# Altium footprint library Connector.PcbLib: 52 footprints (part 2 of 4)
Each footprint in its own frame and in the unit in brackets; x right, y up, seen from the top. Pads: shape width x height; smd on the part's side, far side on the other; paste and mask are expansions set on the pad; w line width, h text height; cw(c..) or ccw(c..) is an arc to the next point about the centre after c.
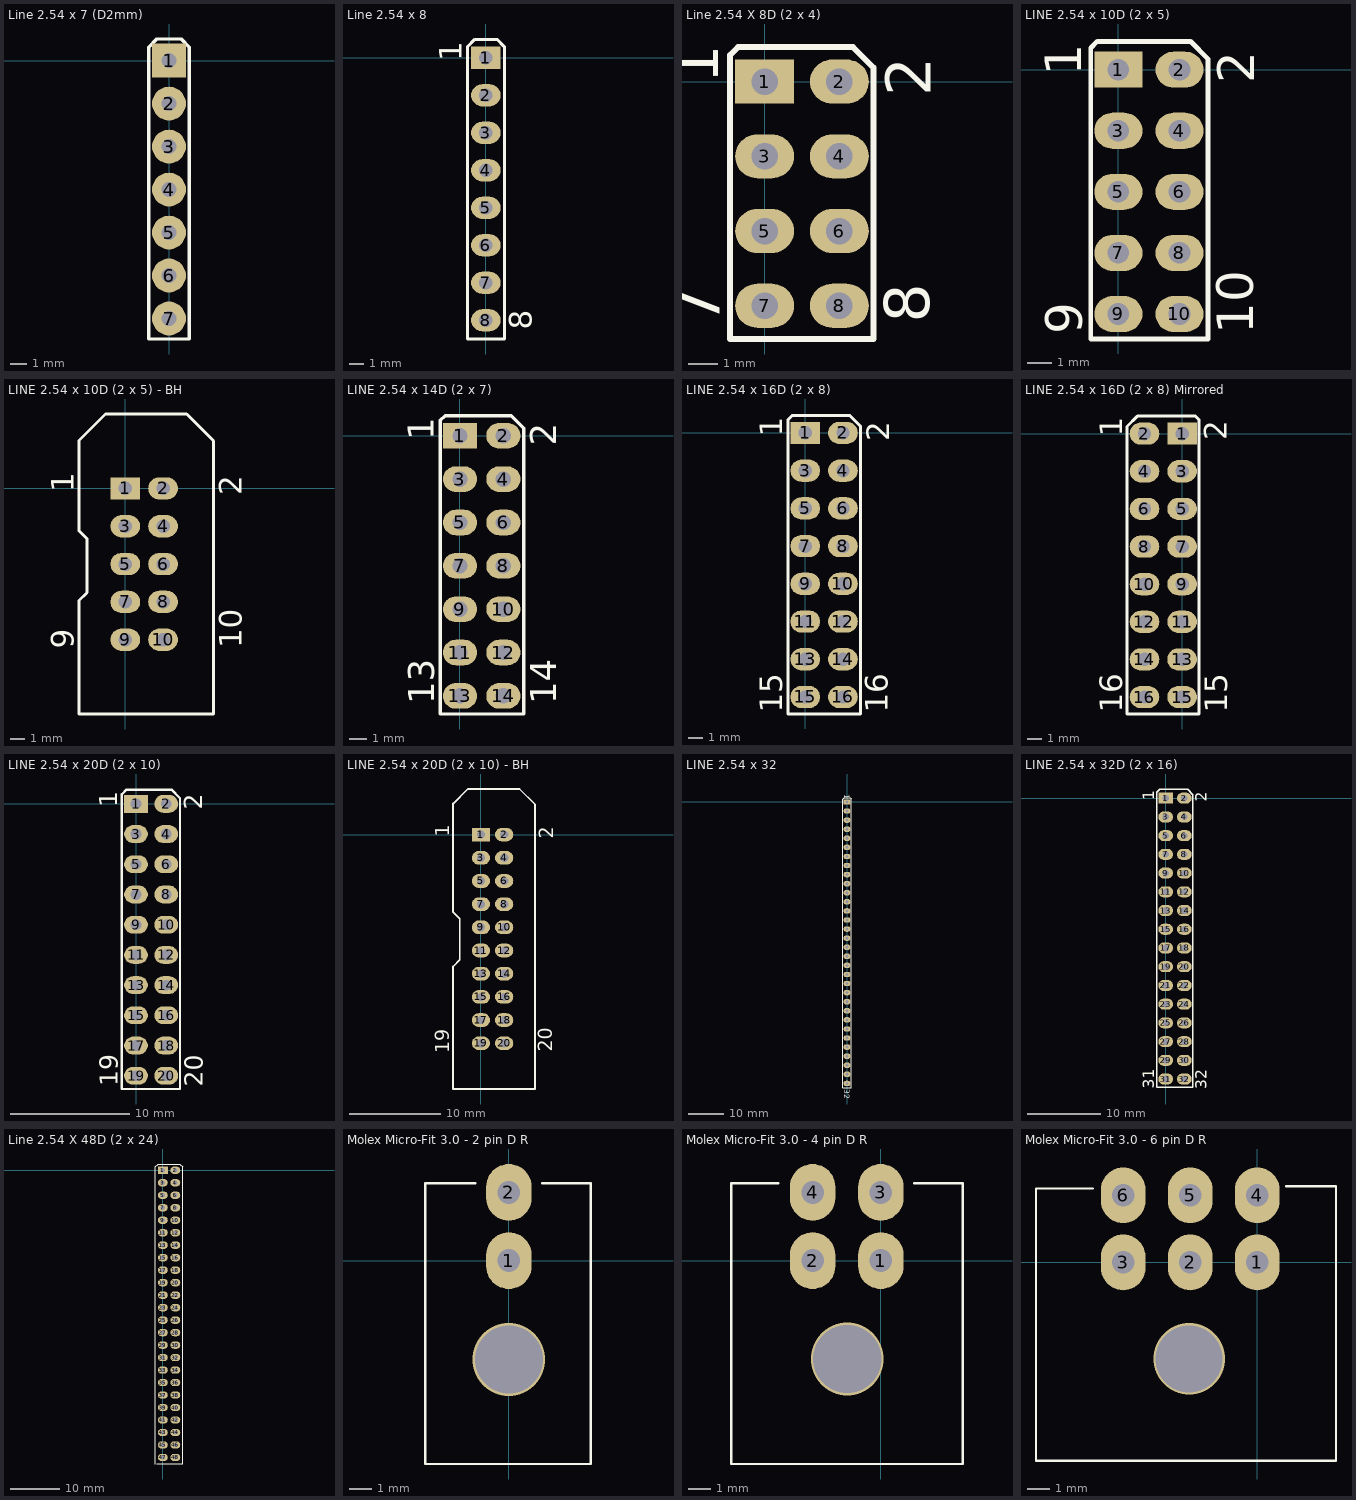
[diagram p1: the footprints below, top view; thin cyan lines are the x and y axes]

## Line 2.54 x 7 (D2mm) [mm]
pads (7):
  rect 2x2 hole 0.9: 1(0,0)
  round 2 hole 0.9: 2(0,-2.54) 3(0,-5.08) 4(0,-7.62) 5(0,-10.16) 6(0,-12.7) 7(0,-15.24)
Top Overlay:
  lines w0.2: -1.2,-16.45 1.2,-16.45 1.2,0.8 0.725,1.275 -0.725,1.275 -1.2,0.8 -1.2,-16.45
3D body: height 8.2, standoff -3, extent -1.253,-16.41 1.246,1.37

## Line 2.54 x 8 [mm]
pads (8):
  rect 2x1.5 hole 0.9: 1(0,0)
  oval 2x1.5 hole 0.9: 2(0,-2.54) 3(0,-5.08) 4(0,-7.62) 5(0,-10.16) 6(0,-12.7) 7(0,-15.24) 8(0,-17.78)
Top Overlay:
  lines w0.2: -1.25,-19.05 1.25,-19.05 1.25,0.75 0.75,1.25 -0.75,1.25 -1.25,0.75 -1.25,-19.05
  text "1" at -1.625,-0.25 h1.52
  text "8" at 3.1,-18.425 h1.52
3D body: height 8.4, standoff -2.8, extent -1.248,-18.91 1.25,1.41

## Line 2.54 X 8D (2 x 4) [mm]
pads (8):
  rect 2x1.5 hole 0.9: 1(0,0)
  oval 2x1.5 hole 0.9: 2(2.54,0) 3(0,-2.54) 4(2.54,-2.54) 5(0,-5.08) 6(2.54,-5.08) 7(0,-7.62) 8(2.54,-7.62)
Top Overlay:
  lines w0.2: -1.175,-8.75 3.7,-8.75 3.7,0.475 3,1.175 -0.9,1.175 -1.175,0.9 -1.175,-8.75
  text "1" at -1.575,-0.075 h1.52
  text "8" at 5.6,-8.2 h1.52
  text "2" at 5.65,-0.5 h1.52
  text "7" at -1.525,-8.275 h1.52
3D body: height 8.6, standoff -2.9, extent -1.265,-8.88 3.815,1.28

## LINE 2.54 x 10D (2 x 5) [mm]
pads (10):
  rect 2x1.5 hole 0.9: 1(0,0)
  oval 2x1.5 hole 0.9: 2(2.54,0) 3(0,-2.54) 4(2.54,-2.54) 5(0,-5.08) 6(2.54,-5.08) 7(0,-7.62) 8(2.54,-7.62) 9(0,-10.16) 10(2.54,-10.16)
Top Overlay:
  lines w0.2: -1.15,-11.2 -1.15,0.9 -0.875,1.175 0.869,1.175 3,1.175 3.725,0.45 3.725,-11.2 -1.15,-11.2
  text "1" at -1.55,-0.25 h1.52
  text "2" at 5.65,-0.575 h1.52
  text "9" at -1.5,-11 h1.52
  text "10" at 5.6,-11 h1.52
3D body: height 8.5, standoff -3, extent -1.265,-11.425 3.815,1.275

## LINE 2.54 x 10D (2 x 5) - BH [mm]
pads (10):
  rect 2x1.5 hole 0.9: 1(0,0)
  oval 2x1.5 hole 0.9: 2(2.54,0) 3(0,-2.54) 4(2.54,-2.54) 5(0,-5.08) 6(2.54,-5.08) 7(0,-7.62) 8(2.54,-7.62) 9(0,-10.16) 10(2.54,-10.16)
Top Overlay:
  lines w0.2: -3.1,-15.15 -3.1,-7.525 -2.575,-7 -2.575,-3.375 -3.1,-2.85 -3.1,3.225 -1.325,5 4.125,5 5.925,3.2 5.925,-15.15 -3.1,-15.15
  text "1" at -3.45,-0.25 h1.52
  text "2" at 7.825,-0.45 h1.52
  text "9" at -3.475,-10.775 h1.52
  text "10" at 7.825,-10.725 h1.52
3D body: height 8.84, standoff -3.3, extent -3.175,-15.255 6.025,5.105

## LINE 2.54 x 14D (2 x 7) [mm]
pads (14):
  rect 2x1.5 hole 0.9: 1(0,0)
  oval 2x1.5 hole 0.9: 2(2.54,0) 3(0,-2.54) 4(2.54,-2.54) 5(0,-5.08) 6(2.54,-5.08) 7(0,-7.62) 8(2.54,-7.62) 9(0,-10.16) 10(2.54,-10.16) 11(0,-12.7) 12(2.54,-12.7) 13(0,-15.24) 14(2.54,-15.24)
Top Overlay:
  lines w0.2: -1.15,-16.3 3.725,-16.3 3.725,0.45 3,1.175 0.869,1.175 -0.875,1.175 -1.15,0.9 -1.15,-16.3
  text "14" at 5.625,-15.725 h1.52
  text "13" at -1.5,-15.725 h1.52
  text "2" at 5.65,-0.575 h1.52
  text "1" at -1.55,-0.25 h1.52
3D body: height 8.8, standoff -2.7, extent -1.265,-16.505 3.815,1.275

## LINE 2.54 x 16D (2 x 8) [mm]
pads (16):
  rect 2x1.5 hole 0.9: 1(0,0)
  oval 2x1.5 hole 0.9: 2(2.54,0) 3(0,-2.54) 4(2.54,-2.54) 5(0,-5.08) 6(2.54,-5.08) 7(0,-7.62) 8(2.54,-7.62) 9(0,-10.16) 10(2.54,-10.16) 11(0,-12.7) 12(2.54,-12.7) 13(0,-15.24) 14(2.54,-15.24) 15(0,-17.78) 16(2.54,-17.78)
Top Overlay:
  lines w0.2: -1.15,-18.925 3.725,-18.925 3.725,0.45 3,1.175 0.869,1.175 -0.875,1.175 -1.15,0.9 -1.15,-18.925
  text "16" at 5.55,-18.825 h1.52
  text "15" at -1.55,-18.85 h1.52
  text "2" at 5.65,-0.575 h1.52
  text "1" at -1.55,-0.25 h1.52
3D body: height 2.3, standoff -9.2, extent -1.265,-19.045 3.815,1.275

## LINE 2.54 x 16D (2 x 8) Mirrored [mm]
pads (16):
  rect 2x1.5 hole 0.9: 1(0,0)
  oval 2x1.5 hole 0.9: 2(-2.54,0) 3(0,-2.54) 4(-2.54,-2.54) 5(0,-5.08) 6(-2.54,-5.08) 7(0,-7.62) 8(-2.54,-7.62) 9(0,-10.16) 10(-2.54,-10.16) 11(0,-12.7) 12(-2.54,-12.7) 13(0,-15.24) 14(-2.54,-15.24) 15(0,-17.78) 16(-2.54,-17.78)
Top Overlay:
  lines w0.2: -3.725,-18.925 1.15,-18.925 1.15,0.925 0.9,1.175 -1.481,1.175 -3.025,1.175 -3.725,0.475 -3.725,-18.925
  text "16" at -4.025,-18.85 h1.52
  text "15" at 3.05,-18.825 h1.52
  text "2" at 3,-0.45 h1.52
  text "1" at -4.05,-0.2 h1.52
3D body: height 2.3, standoff -9.2, extent -3.815,-19.045 1.265,1.275

## LINE 2.54 x 20D (2 x 10) [mm]
pads (20):
  rect 2x1.5 hole 0.9: 1(0,0)
  oval 2x1.5 hole 0.9: 2(2.54,0) 3(0,-2.54) 4(2.54,-2.54) 5(0,-5.08) 6(2.54,-5.08) 7(0,-7.62) 8(2.54,-7.62) 9(0,-10.16) 10(2.54,-10.16) 11(0,-12.7) 12(2.54,-12.7) 13(0,-15.24) 14(2.54,-15.24) 15(0,-17.78) 16(2.54,-17.78) 17(0,-20.32) 18(2.54,-20.32) 19(0,-22.86) 20(2.54,-22.86)
Top Overlay:
  lines w0.2: -1.2,-23.975 3.7,-23.975 3.7,0.475 2.975,1.2 0.844,1.2 -0.8,1.2 -1.2,0.8 -1.2,-23.975
  text "20" at 5.6,-23.775 h1.52
  text "19" at -1.525,-23.75 h1.52
  text "2" at 5.575,-0.475 h1.52
  text "1" at -1.575,-0.275 h1.52
3D body: height 8.5, standoff -3, extent -1.265,-24.125 3.815,1.275

## LINE 2.54 x 20D (2 x 10) - BH [mm]
pads (20):
  rect 2x1.5 hole 0.9: 1(0,0)
  oval 2x1.5 hole 0.9: 2(2.54,0) 3(0,-2.54) 4(2.54,-2.54) 5(0,-5.08) 6(2.54,-5.08) 7(0,-7.62) 8(2.54,-7.62) 9(0,-10.16) 10(2.54,-10.16) 11(0,-12.7) 12(2.54,-12.7) 13(0,-15.24) 14(2.54,-15.24) 15(0,-17.78) 16(2.54,-17.78) 17(0,-20.32) 18(2.54,-20.32) 19(0,-22.86) 20(2.54,-22.86)
Top Overlay:
  lines w0.2: -3.05,-27.875 5.925,-27.875 5.925,3.3 4.225,5 -1.45,5 -3.05,3.4 -3.05,-8.5 -2.325,-9.225 -2.325,-13.725 -3.05,-14.45 -3.05,-27.875
  text "1" at -3.5,-0.25 h1.52
  text "2" at 7.9,-0.45 h1.52
  text "19" at -3.475,-23.95 h1.52
  text "20" at 7.825,-23.775 h1.52
3D body: height 8.84, standoff -3.3, extent -3.175,-27.955 6.025,5.105

## LINE 2.54 x 32 [mm]
pads (32):
  rect 2x1.5 hole 0.9: 1(0,0)
  oval 2x1.5 hole 0.9: 2(0,-2.54) 3(0,-5.08) 4(0,-7.62) 5(0,-10.16) 6(0,-12.7) 7(0,-15.24) 8(0,-17.78) 9(0,-20.32) 10(0,-22.86) 11(0,-25.4) 12(0,-27.94) 13(0,-30.48) 14(0,-33.02) 15(0,-35.56) 16(0,-38.1) 17(0,-40.64) 18(0,-43.18) 19(0,-45.72) 20(0,-48.26) 21(0,-50.8) 22(0,-53.34) 23(0,-55.88) 24(0,-58.42) 25(0,-60.96) 26(0,-63.5) 27(0,-66.04) 28(0,-68.58) 29(0,-71.12) 30(0,-73.66) 31(0,-76.2) 32(0,-78.74)
Top Overlay:
  lines w0.2: -1.2,-79.9 -1.2,0.8 -0.8,1.2 0.844,1.2 1.144,0.9 1.2,0.9 1.2,-0.575 1.2,-79.9 -1.2,-79.9
  text "1" at -0.8,2.1 h1.52
  text "32" at -0.7,-80.3 h1.52
3D body: height 8.2, standoff -3, extent -1.249,-74.825 1.249,1.375
3D body: height 8.2, standoff -3, extent -1.253,-79.915 1.246,-74.835

## LINE 2.54 x 32D (2 x 16) [mm]
pads (32):
  rect 2x1.5 hole 0.9: 1(0,0)
  oval 2x1.5 hole 0.9: 2(2.54,0) 3(0,-2.54) 4(2.54,-2.54) 5(0,-5.08) 6(2.54,-5.08) 7(0,-7.62) 8(2.54,-7.62) 9(0,-10.16) 10(2.54,-10.16) 11(0,-12.7) 12(2.54,-12.7) 13(0,-15.24) 14(2.54,-15.24) 15(0,-17.78) 16(2.54,-17.78) 17(0,-20.32) 18(2.54,-20.32) 19(0,-22.86) 20(2.54,-22.86) 21(0,-25.4) 22(2.54,-25.4) 23(0,-27.94) 24(2.54,-27.94) 25(0,-30.48) 26(2.54,-30.48) 27(0,-33.02) 28(2.54,-33.02) 29(0,-35.56) 30(2.54,-35.56) 31(0,-38.1) 32(2.54,-38.1)
Top Overlay:
  lines w0.2: -1.2,-39.225 -1.2,0.8 -0.8,1.2 0.844,1.2 2.975,1.2 3.7,0.475 3.7,-39.225 -1.2,-39.225
  text "1" at -1.575,-0.275 h1.52
  text "2" at 5.575,-0.475 h1.52
  text "31" at -1.55,-39.4 h1.52
  text "32" at 5.575,-39.45 h1.52
3D body: height 8.5, standoff -3, extent -1.29,-39.345 3.79,1.295

## Line 2.54 X 48D (2 x 24) [mm]
pads (48):
  rect 2x1.5 hole 0.9: 1(0,0)
  oval 2x1.5 hole 0.9: 2(2.54,0) 3(0,-2.54) 4(2.54,-2.54) 5(0,-5.08) 6(2.54,-5.08) 7(0,-7.62) 8(2.54,-7.62) 9(0,-10.16) 10(2.54,-10.16) 11(0,-12.7) 12(2.54,-12.7) 13(0,-15.24) 14(2.54,-15.24) 15(0,-17.78) 16(2.54,-17.78) 17(0,-20.32) 18(2.54,-20.32) 19(0,-22.86) 20(2.54,-22.86) 21(0,-25.4) 22(2.54,-25.4) 23(0,-27.94) 24(2.54,-27.94) 25(0,-30.48) 26(2.54,-30.48) 27(0,-33.02) 28(2.54,-33.02) 29(0,-35.56) 30(2.54,-35.56) 31(0,-38.1) 32(2.54,-38.1) 33(0,-40.64) 34(2.54,-40.64) 35(0,-43.18) 36(2.54,-43.18) 37(0,-45.72) 38(2.54,-45.72) 39(0,-48.26) 40(2.54,-48.26) 41(0,-50.8) 42(2.54,-50.8) 43(0,-53.34) 44(2.54,-53.34) 45(0,-55.88) 46(2.54,-55.88) 47(0,-58.42) 48(2.54,-58.42)
Top Overlay:
  lines w0.2: -1.5,-59.75 -1.5,0.75 -0.98,1.27 3.48,1.27 4,0.75 4,-59.69 -1.25,-59.69
3D body: height 8.6, standoff -2.9, extent -1.275,-59.685 3.805,-49.525
3D body: height 8.6, standoff -2.9, extent -1.265,-49.525 3.815,1.275

## Molex Micro-Fit 3.0 - 2 pin D R [mm]
pads (2):
  oval 2x2.5 hole 1: 1(0,0) 2(0,3)
via 0,-4.35 diameter 3.2 hole 3
Top Overlay:
  lines w0.1: -1.475,3.4 -3.675,3.4 -3.675,-8.95 3.6,-8.95 3.6,3.4 1.475,3.4
3D body: height 8.83, standoff -3.12, extent -3.6,-8.945 3.55,3.295

## Molex Micro-Fit 3.0 - 4 pin D R [mm]
pads (4):
  oval 2x2.5 hole 1: 1(0,0) 2(-3,0) 3(0,3) 4(-3,3)
via -1.475,-4.325 diameter 3.2 hole 3
Top Overlay:
  lines w0.1: -4.5,3.4 -6.575,3.4 -6.575,-8.95 3.6,-8.95 3.6,3.4 1.475,3.4
3D body: height 8.83, standoff -3.12, extent -6.55,-8.94 3.6,3.3

## Molex Micro-Fit 3.0 - 6 pin D R [mm]
pads (6):
  oval 2x2.5 hole 1: 1(0,0) 2(-3,0) 3(-6,0) 4(0,3) 5(-3,3) 6(-6,3)
via -3.05,-4.325 diameter 3.2 hole 3
Top Overlay:
  lines w0.1: -7.35,3.3 -9.9,3.3 -9.9,-8.875 3.525,-8.875 3.525,3.4 1.3,3.4
3D body: height 8.83, standoff -3.12, extent -9.6,-8.94 3.55,3.3